# EAGLE library part MAX2752 (library kiss_z)
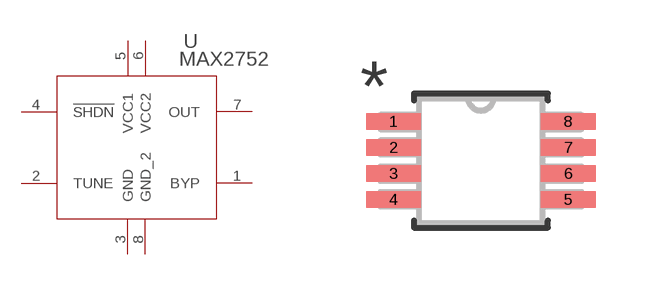
[diagram p1: symbol with the pads of 21-0036K; footprint 21-0036K]

Designator prefix U

## MAX2752  [21-0036K]
1  BYP  pas
2  TUNE  pas
3  GND  pwr
4  !SHDN  pas
5  VCC1  pwr
6  VCC2  pwr
7  OUT  out
8  GND_2  pwr

## Footprint 21-0036K (pad centres in mm)
smd 1.372 x 0.406: 1 -2.184,0.975; 2 -2.184,0.325; 3 -2.184,-0.325; 4 -2.184,-0.975; 5 2.184,-0.975; 6 2.184,-0.325; 7 2.184,0.325; 8 2.184,0.975